# Altium footprint library H71V2.PcbLib: 34 footprints (part 1 of 3)
Each footprint in its own frame and in the unit in brackets; x right, y up, seen from the top. Pads: shape width x height; smd on the part's side, far side on the other; paste and mask are expansions set on the pad; w line width, h text height; cw(c..) or ccw(c..) is an arc to the next point about the centre after c.
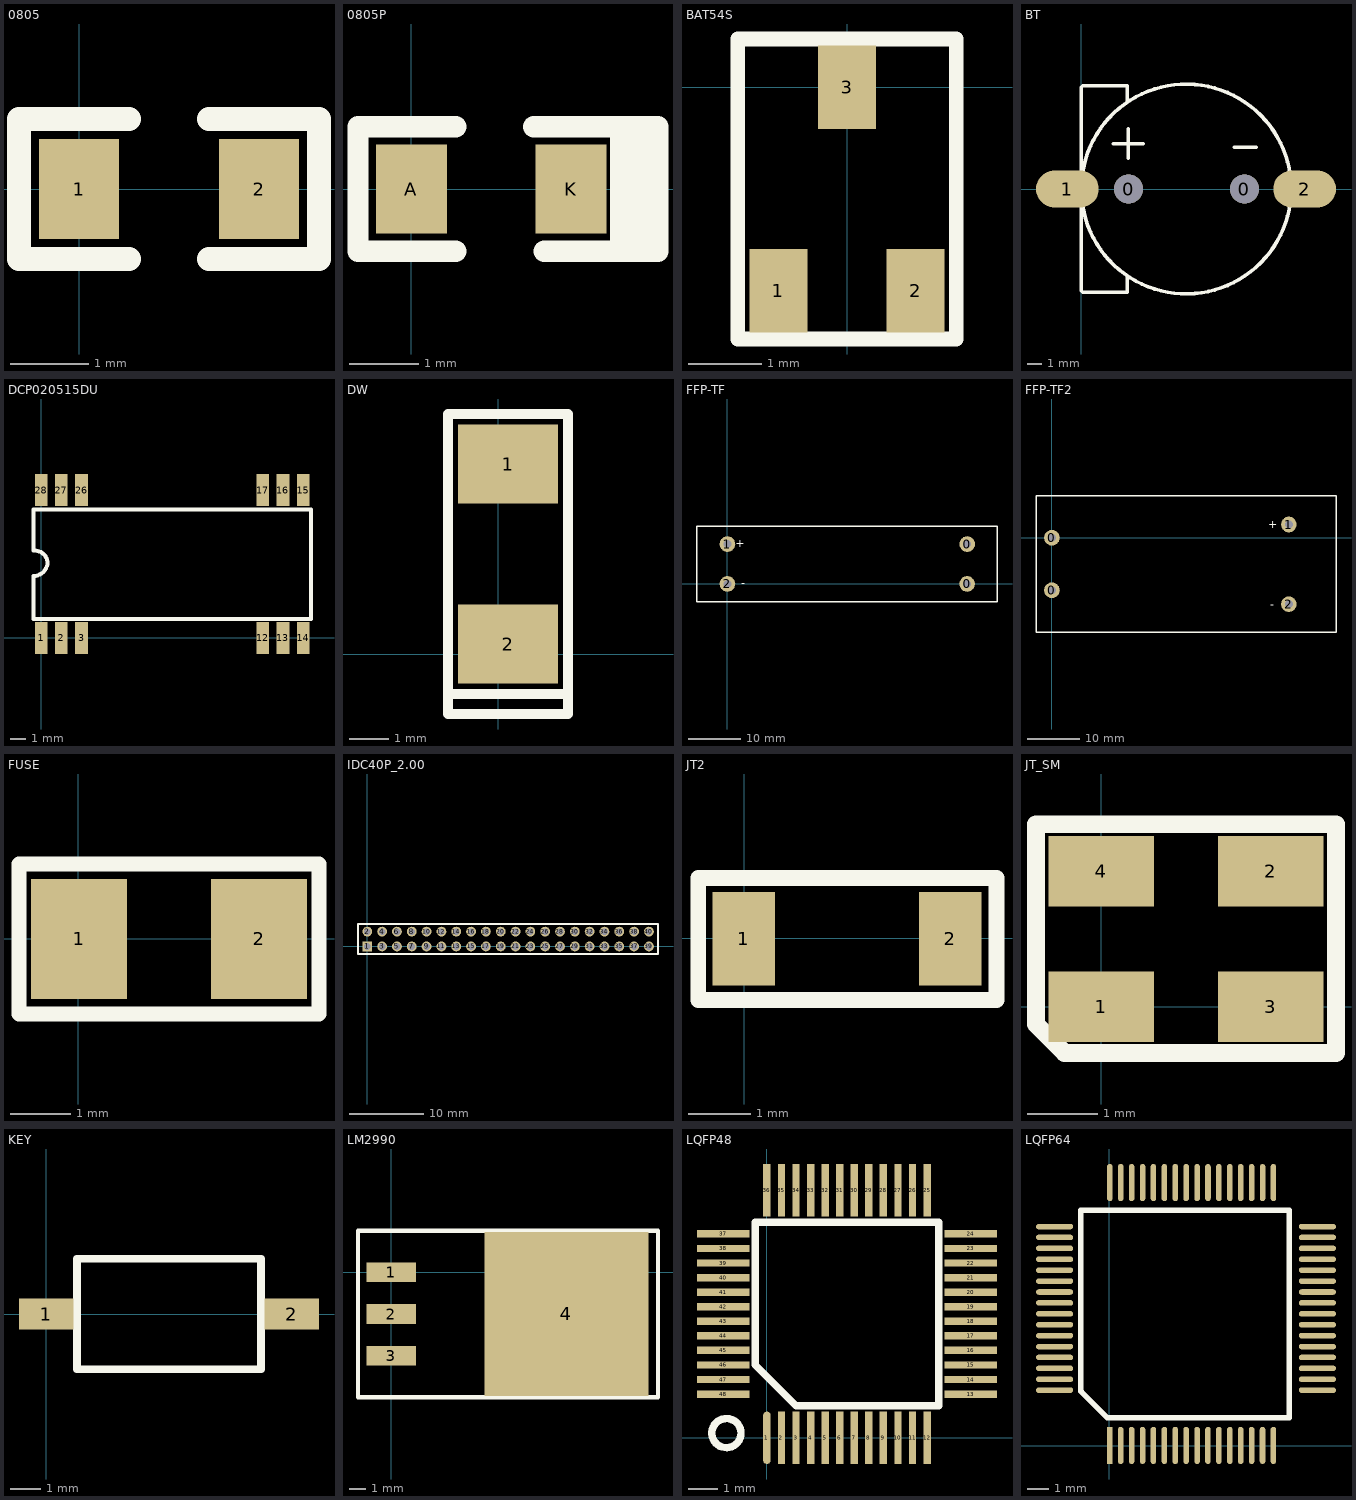
[diagram p0: the footprints below, top view; thin cyan lines are the x and y axes]

## 0805 [mil]
pads (2):
  rect 40x50 smd: 1(0,0) 2(90,0)
Top Overlay:
  lines w12: 25,-35 -30,-35 -30,35 25,35 ; 65,-35 120,-35 120,35 65,35

## 0805P [mil]
pads (2):
  rect 40x50 smd: A(0,0) K(90,0)
Top Overlay:
  lines w10: 117,-32 117,33
  lines w12: 25,-35 -30,-35 -30,35 25,35 ; 69,35 139,35 139,-35 75,-35 ; 128,-35 128,35

## BAT54S [mil]
pads (3):
  rect 31.5x45 smd: 1(-37,-110) 2(37,-110) 3(0,0)
Top Overlay:
  lines w8: -59,-136 59,-136 59,26 -59,26 -59,-136

## BT [mm]
pads (4):
  round 2 hole 2: 0(3.258,0) 0(11.233,0)
  oval 4.318x2.54 smd: 1(-0.959,0) 2(15.373,0)
Top Overlay:
  circle w0.254: c7.22,0 r7.22
  lines w0.254: 2.216,3.124 4.248,3.124 ; 3.156,-6.096 3.156,-7.112 0.108,-7.112 0,-7.004 0,0 0,7.004 0.108,7.112 3.156,7.112 3.156,6.096 ; 3.232,2.108 3.232,4.14 ; 10.522,2.87 12.046,2.87

## DCP020515DU [mm]
pads (12):
  rect 0.8x2 smd: 1(0,0) 2(1.27,0) 3(2.54,0) 12(13.97,0) 13(15.24,0) 14(16.51,0) 15(16.51,9.32) 16(15.24,9.32) 17(13.97,9.32) 26(2.54,9.32) 27(1.27,9.32) 28(0,9.32)
Top Overlay:
  lines w0.254: -0.5,1.2 17,1.2 17,8.1 -0.5,8.1 -0.5,5.5 cw(c-0.4,4.7) 0.4,4.8 cw(c-0.5,4.8) -0.5,3.9 -0.5,1.2

## DW [mil]
pads (2):
  rect 100x78.74 smd: 1(10,190) 2(10,10)
Top Overlay:
  lines w10: -50,-40 70,-40 ; -50,-60 70,-60 70,240 -50,240 -50,-60

## FFP-TF [mm]
pads (4):
  round 3 hole 1.5: 0(45.7,0) 0(45.711,7.6) 1(0,7.6) 2(0,0)
Top Overlay:
  lines w0.254: 45.7,0 45.711,0.011 ; -5.8,-3.4 -5.8,11 51.4,11 51.4,-3.4 -5.8,-3.4
  text "+" at 3.317,8.362 h1.52
  text "-" at 3.398,0.622 h1.52

## FFP-TF2 [mm]
pads (4):
  round 3 hole 1.5: 0(0,-10.033) 0(0,0) 1(45.339,2.54) 2(45.339,-12.7)
Top Overlay:
  lines w0.254: -3.048,-18.034 54.356,-18.034 54.356,8.001 -3.048,8.001 -3.048,-18.034
  text "+" at 41.402,1.778 h1.52
  text "-" at 41.783,-13.462 h1.52

## FUSE [mm]
pads (2):
  rect 1.6x2 smd: 1(0.009,-0.005) 2(3.009,-0.005)
Top Overlay:
  lines w0.254: 4.009,1.195 4.009,-1.255 -0.991,-1.255 -0.991,1.245 4.009,1.245

## IDC40P_2.00 [mil]
pads (40):
  rect 52x52 hole 35: 1(0,0)
  round 52 hole 35: 2(0,78.74) 3(78.74,0) 4(78.74,78.74) 5(157.48,0) 6(157.48,78.74) 7(236.22,0) 8(236.22,78.74) 9(314.96,0) 10(314.96,78.74) 11(393.7,0) 12(393.7,78.74) 13(472.44,0) 14(472.44,78.74) 15(551.18,0) 16(551.18,78.74) 17(629.92,0) 18(629.92,78.74) 19(708.66,0) 20(708.66,78.74) 21(787.4,0) 22(787.4,78.74) 23(866.14,0) 24(866.14,78.74) 25(944.88,0) 26(944.88,78.74) 27(1023.62,0) 28(1023.62,78.74) 29(1102.36,0) 30(1102.36,78.74) 31(1181.1,0) 32(1181.1,78.74) 33(1259.84,0) 34(1259.84,78.74) 35(1338.58,0) 36(1338.58,78.74) 37(1417.32,0) 38(1417.32,78.74) 39(1496.06,0) 40(1496.06,78.74)
Top Overlay:
  lines w10: -49.49,-39.28 1544.13,-39.28 ; -49.41,118.6 1544.27,118.68 ; -49.08,-38.81 -49,119.03 ; 1544.13,-39.77 1544.26,118.57

## JT2 [mm]
pads (2):
  rect 1x1.5 smd: 1(-0.007,-0.011) 2(3.295,-0.011)
Top Overlay:
  lines w0.254: -0.737,-0.991 4.039,-0.991 4.039,0.965 -0.737,0.965 -0.737,-0.991

## JT_SM [mm]
pads (4):
  rect 1.5x1 smd: 1(0,0) 2(2.413,1.93) 3(2.413,0) 4(0,1.93)
Top Overlay:
  lines w0.254: -0.925,-0.247 -0.519,-0.654 3.342,-0.654 3.342,2.597 -0.925,2.597 -0.925,-0.247

## KEY [mil]
pads (2):
  rect 70x40 smd: 1(0,0) 2(314.96,0)
Top Overlay:
  lines w10: 39.37,-70.87 39.37,70.87 275.59,70.87 275.59,-70.87 39.37,-70.87

## LM2990 [mm]
pads (4):
  rect 3x1.2 smd: 1(0,0) 2(0,-2.54) 3(0,-5.08)
  rect 10x10 smd: 4(10.668,-2.54)
Top Overlay:
  lines w0.254: -2.032,-7.62 -2.032,2.54 16.256,2.54 16.256,-7.62 -2.032,-7.62

## LQFP48 [mm]
pads (48):
  oval 0.254x1.8 smd: 1(0,0)
  rect 0.254x1.8 smd: 2(0.5,0) 3(1,0) 4(1.5,0) 5(2,0) 6(2.5,0) 7(3,0) 8(3.5,0) 9(4,0) 10(4.5,0) 11(5,0) 12(5.5,0) 25(5.5,8.5) 26(5,8.5) 27(4.5,8.5) 28(4,8.5) 29(3.5,8.5) 30(3,8.5) 31(2.5,8.5) 32(2,8.5) 33(1.5,8.5) 34(1,8.5) 35(0.5,8.5) 36(0,8.5)
  rect 1.8x0.254 smd: 13(7,1.5) 14(7,2) 15(7,2.5) 16(7,3) 17(7,3.5) 18(7,4) 19(7,4.5) 20(7,5) 21(7,5.5) 22(7,6) 23(7,6.5) 24(7,7) 37(-1.5,7) 38(-1.5,6.5) 39(-1.5,6) 40(-1.5,5.5) 41(-1.5,5) 42(-1.5,4.5) 43(-1.5,4) 44(-1.5,3.5) 45(-1.5,3) 46(-1.5,2.5) 47(-1.5,2) 48(-1.5,1.5)
Top Overlay:
  circle w0.254: c-1.39,0.162 r0.5
  lines w0.254: -0.4,2.5 -0.4,7.4 5.9,7.4 5.9,1.1 1,1.1 -0.4,2.5

## LQFP64 [mil]
pads (64):
  rect 10x67 smd: 1(0.76,0.84)
  oval 10x67 smd: 2(20.45,0.84) 3(40.13,0.84) 4(59.82,0.84) 5(79.5,0.84) 6(99.19,0.84) 7(118.87,0.84) 8(138.56,0.84) 9(158.24,0.84) 10(177.93,0.84) 11(197.61,0.84) 12(217.3,0.84) 13(236.98,0.84) 14(256.67,0.84) 15(276.35,0.84) 16(296.04,0.84) 33(296.06,475.22) 34(276.38,475.22) 35(256.69,475.22) 36(237.01,475.22) 37(217.32,475.22) 38(197.64,475.22) 39(177.95,475.22) 40(158.27,475.22) 41(138.58,475.22) 42(118.9,475.22) 43(99.21,475.22) 44(79.53,475.22) 45(59.84,475.22) 46(40.16,475.22) 47(20.47,475.22) 48(0.79,475.22)
  oval 67x10 smd: 17(375.42,100.57) 18(375.42,120.25) 19(375.42,139.94) 20(375.42,159.62) 21(375.42,179.31) 22(375.42,198.99) 23(375.42,218.68) 24(375.42,238.36) 25(375.42,258.05) 26(375.42,277.73) 27(375.42,297.42) 28(375.42,317.1) 29(375.42,336.79) 30(375.42,356.47) 31(375.42,376.16) 32(375.42,395.84) 49(-98.87,395.84) 50(-98.87,376.16) 51(-98.87,356.47) 52(-98.87,336.79) 53(-98.87,317.1) 54(-98.87,297.42) 55(-98.87,277.73) 56(-98.87,258.05) 57(-98.87,238.36) 58(-98.87,218.68) 59(-98.87,198.99) 60(-98.87,179.31) 61(-98.87,159.62) 62(-98.87,139.94) 63(-98.87,120.25) 64(-98.87,100.57)
Top Overlay:
  lines w10: -51.6,98.84 -51.6,424.88 ; -50.2,424.88 324.49,424.88 324.49,51.18 -3.94,51.18 ; -3.94,51.18 -51.18,98.42 -3.94,51.18